# Altium schematic symbol library UserMagneticSensor.SchLib: 2 symbols
Pins are listed as number, name and electrical type; pins without a type are passive.

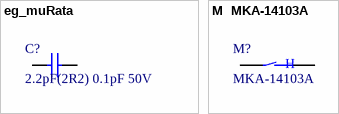
[diagram p0: symbols eg_muRata to M  MKA-14103A]

## eg_muRata
designator C?, comment 2.2pF(2R2) 0.1pF 50V
村田 0402 贴片电容; ManufacturerPartNumber: GRM1555C1H2R2BA01D; Manufacturer: muRata(村田); ComponentLink1Description: NULL; Supplier: LC; SuppliersPartNumber: C88927; Package: 0402; SuppliersLink1URL: http://www.szlcsc.com/product/details_90107.html
footprint 0402_C
pins: 1, 2

## M  MKA-14103A
designator M?, comment MKA-14103A
干簧管; Manufacturer: MKA; ComponentLink1Description: NULL; Supplier: LC; SuppliersPartNumber: C93038; Package: 直插; SuppliersLink1URL: http://www.szlcsc.com/product/details_94233.html; ManufacturerPartNumber: MKA-14103A
footprint AT10-15 (AT10-15 干簧管 15mm)
pins: 1, 2
text: H